# EAGLE library part STC3115 (library cTechnologies_integratedCircuits)
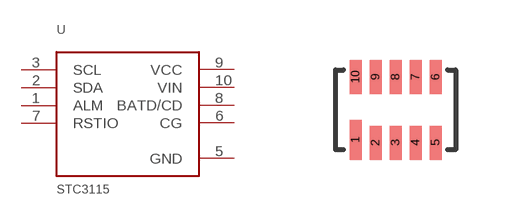
[diagram p26: symbol with the pads of DFN10; footprint DFN10]

Designator prefix U

## STC3115IQT  [DFN10]
1  ALM  out
2  SDA
3  SCL
5  GND  sup
6  CG  in
7  RSTIO  out
8  BATD/CD  in
9  VCC  sup
10  VIN  sup

## STC3115AIQT  [DFN10]
Pads as for DFN10

## Footprint DFN10 (pad centres in mm)
smd 0.3 x 1: 1 -1,-0.75
smd 0.3 x 0.85: 2 -0.5,-0.825; 3 0,-0.825; 4 0.5,-0.825; 5 1,-0.825; 6 1,0.825; 7 0.5,0.825; 8 0,0.825; 9 -0.5,0.825; 10 -1,0.825